# Altium integrated library Capacitors - Ceramic - 0201.IntLib: 1723 symbols (part 8 of 38)
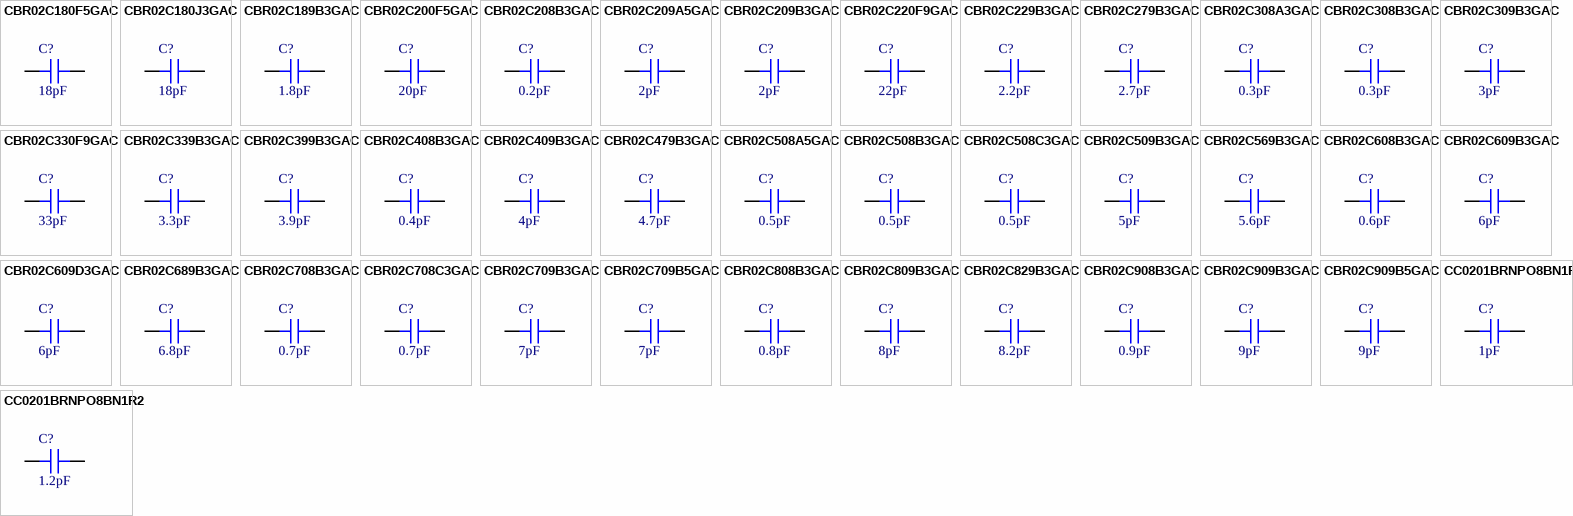
[diagram p50: symbols CBR02C180F5GAC to CC0201BRNPO8BN1R2]

## CBR02C208B3GAC
designator C?, comment 0.2pF
CAP CER 0.2PF 25V C0G/NP0 0201; Part Number: CBR02C208B3GAC; Manufacturer: KEMET; Temperature Coefficient: C0G, NP0; Tolerance: ±0.1pF; Value: 0.2pF; Applications: RF, Microwave, High Frequency; Capacitance: 0.2pF; ComponentLink1Description: Datasheet; ComponentLink1URL: https://api.kemet.com/component-edge/download/datasheet/CBR02C208B3GAC.pdf; ComponentLink2Description: DigiKey Link; ComponentLink2URL: http://digikey.com/product-detail/en/kemet/CBR02C208B3GAC/399-8620-1-ND/3479284; Device Package: 0201 (0603 Metric); Features: High Q, Low Loss, Ultra Low ESR; LastUpdated: 9/2/2020 12:59:07 AM; Lifecycle Status: Active; Minimum Order: 1; Mounting Type: Surface Mount, MLCC; Operating Temperature: -55°C ~ 125°C; Package / Case: 0201 (0603 Metric); Packaging: TapeAndReel; PartId: 841; Part Status: Active; Price: 0.03; Series: CBR-SMD RF C0G; Size / Dimension: 0.024" L x 0.012" W (0.60mm x 0.30mm); Supplier 1: DigiKey; Supplier Part Number 1: 399-8620-1-ND; Thickness (Max): 0.013" (0.33mm); Voltage - Rated: 25V
footprint CAP 0201_0603
pins: 1, 2

## CBR02C209A5GAC
designator C?, comment 2pF
CAP CER 2PF 50V C0G/NP0 0201; Part Number: CBR02C209A5GAC; Manufacturer: KEMET; Temperature Coefficient: C0G, NP0; Tolerance: ±0.05pF; Value: 2pF; Applications: RF, Microwave, High Frequency; Capacitance: 2pF; ComponentLink1Description: Datasheet; ComponentLink1URL: https://api.kemet.com/component-edge/download/datasheet/CBR02C209A5GAC.pdf; ComponentLink2Description: DigiKey Link; ComponentLink2URL: http://digikey.com/product-detail/en/kemet/CBR02C209A5GAC/399-17305-1-ND/8602587; Device Package: 0201 (0603 Metric); Features: High Q, Low Loss, Ultra Low ESR; LastUpdated: 9/2/2020 1:00:12 AM; Lifecycle Status: Active; Minimum Order: 1; Mounting Type: Surface Mount, MLCC; Operating Temperature: -55°C ~ 125°C; Package / Case: 0201 (0603 Metric); Packaging: TapeAndReel; PartId: 91; Part Status: Active; Price: 0.07; Series: CBR-SMD RF C0G; Size / Dimension: 0.024" L x 0.012" W (0.60mm x 0.30mm); Supplier 1: DigiKey; Supplier Part Number 1: 399-17305-1-ND; Thickness (Max): 0.013" (0.33mm); Voltage - Rated: 50V
footprint CAP 0201_0603
pins: 1, 2

## CBR02C209B3GAC
designator C?, comment 2pF
CAP CER 2PF 25V C0G/NP0 0201; Part Number: CBR02C209B3GAC; Manufacturer: KEMET; Temperature Coefficient: C0G, NP0; Tolerance: ±0.1pF; Value: 2pF; Applications: RF, Microwave, High Frequency; Capacitance: 2pF; ComponentLink1Description: Datasheet; ComponentLink1URL: https://api.kemet.com/component-edge/download/datasheet/CBR02C209B3GAC.pdf; ComponentLink2Description: DigiKey Link; ComponentLink2URL: http://digikey.com/product-detail/en/kemet/CBR02C209B3GAC/399-8567-1-ND/3479295; Device Package: 0201 (0603 Metric); Features: High Q, Low Loss, Ultra Low ESR; LastUpdated: 9/2/2020 12:59:16 AM; Lifecycle Status: Active; Minimum Order: 1; Mounting Type: Surface Mount, MLCC; Operating Temperature: -55°C ~ 125°C; Package / Case: 0201 (0603 Metric); Packaging: TapeAndReel; PartId: 734; Part Status: Active; Price: 0.03; Series: CBR-SMD RF C0G; Size / Dimension: 0.024" L x 0.012" W (0.60mm x 0.30mm); Supplier 1: DigiKey; Supplier Part Number 1: 399-8567-1-ND; Thickness (Max): 0.013" (0.33mm); Voltage - Rated: 25V
footprint CAP 0201_0603
pins: 1, 2

## CBR02C220F9GAC
designator C?, comment 22pF
CAP CER 22PF 6.3V NP0 0201; Part Number: CBR02C220F9GAC; Manufacturer: KEMET; Temperature Coefficient: C0G, NP0; Tolerance: ±1%; Value: 22pF; Applications: RF, Microwave, High Frequency; Capacitance: 22pF; ComponentLink1Description: Datasheet; ComponentLink1URL: https://api.kemet.com/component-edge/download/datasheet/CBR02C220F9GAC.pdf; ComponentLink2Description: DigiKey Link; ComponentLink2URL: http://digikey.com/product-detail/en/kemet/CBR02C220F9GAC/399-17306-1-ND/8602588; Device Package: 0201 (0603 Metric); Features: High Q, Low Loss, Ultra Low ESR; LastUpdated: 9/2/2020 12:58:39 AM; Lifecycle Status: Active; Minimum Order: 1; Mounting Type: Surface Mount, MLCC; Operating Temperature: -55°C ~ 125°C; Package / Case: 0201 (0603 Metric); Packaging: TapeAndReel; PartId: 1178; Part Status: Active; Price: 0.11; Series: CBR-SMD RF C0G; Size / Dimension: 0.024" L x 0.012" W (0.60mm x 0.30mm); Supplier 1: DigiKey; Supplier Part Number 1: 399-17306-1-ND; Thickness (Max): 0.013" (0.33mm); Voltage - Rated: 6.3V
footprint CAP 0201_0603
pins: 1, 2

## CBR02C229B3GAC
designator C?, comment 2.2pF
CAP CER 2.2PF 25V C0G/NP0 0201; Part Number: CBR02C229B3GAC; Manufacturer: KEMET; Temperature Coefficient: C0G, NP0; Tolerance: ±0.1pF; Value: 2.2pF; Applications: RF, Microwave, High Frequency; Capacitance: 2.2pF; ComponentLink1Description: Datasheet; ComponentLink1URL: https://api.kemet.com/component-edge/download/datasheet/CBR02C229B3GAC.pdf; ComponentLink2Description: DigiKey Link; ComponentLink2URL: http://digikey.com/product-detail/en/kemet/CBR02C229B3GAC/399-8607-1-ND/3479306; Device Package: 0201 (0603 Metric); Features: High Q, Low Loss, Ultra Low ESR; LastUpdated: 9/2/2020 12:59:08 AM; Lifecycle Status: Active; Minimum Order: 1; Mounting Type: Surface Mount, MLCC; Operating Temperature: -55°C ~ 125°C; Package / Case: 0201 (0603 Metric); Packaging: TapeAndReel; PartId: 825; Part Status: Active; Price: 0.03; Series: CBR-SMD RF C0G; Size / Dimension: 0.024" L x 0.012" W (0.60mm x 0.30mm); Supplier 1: DigiKey; Supplier Part Number 1: 399-8607-1-ND; Thickness (Max): 0.013" (0.33mm); Voltage - Rated: 25V
footprint CAP 0201_0603
pins: 1, 2

## CBR02C279B3GAC
designator C?, comment 2.7pF
CAP CER 2.7PF 25V C0G/NP0 0201; Part Number: CBR02C279B3GAC; Manufacturer: KEMET; Temperature Coefficient: C0G, NP0; Tolerance: ±0.1pF; Value: 2.7pF; Applications: RF, Microwave, High Frequency; Capacitance: 2.7pF; ComponentLink1Description: Datasheet; ComponentLink1URL: https://api.kemet.com/component-edge/download/datasheet/CBR02C279B3GAC.pdf; ComponentLink2Description: DigiKey Link; ComponentLink2URL: http://digikey.com/product-detail/en/kemet/CBR02C279B3GAC/399-8566-1-ND/3479315; Device Package: 0201 (0603 Metric); Features: High Q, Low Loss, Ultra Low ESR; LastUpdated: 9/2/2020 12:58:52 AM; Lifecycle Status: Active; Minimum Order: 1; Mounting Type: Surface Mount, MLCC; Operating Temperature: -55°C ~ 125°C; Package / Case: 0201 (0603 Metric); Packaging: TapeAndReel; PartId: 1015; Part Status: Active; Price: 0.03; Series: CBR-SMD RF C0G; Size / Dimension: 0.024" L x 0.012" W (0.60mm x 0.30mm); Supplier 1: DigiKey; Supplier Part Number 1: 399-8566-1-ND; Thickness (Max): 0.013" (0.33mm); Voltage - Rated: 25V
footprint CAP 0201_0603
pins: 1, 2

## CBR02C308A3GAC
designator C?, comment 0.3pF
CAP CER 0.3PF 25V C0G/NP0 0201; Part Number: CBR02C308A3GAC; Manufacturer: KEMET; Temperature Coefficient: C0G, NP0; Tolerance: ±0.05pF; Value: 0.3pF; Applications: RF, Microwave, High Frequency; Capacitance: 0.3pF; ComponentLink1Description: Datasheet; ComponentLink1URL: https://api.kemet.com/component-edge/download/datasheet/CBR02C308A3GAC.pdf; ComponentLink2Description: DigiKey Link; ComponentLink2URL: http://digikey.com/product-detail/en/kemet/CBR02C308A3GAC/399-8569-1-ND/3479326; Device Package: 0201 (0603 Metric); Features: High Q, Low Loss, Ultra Low ESR; LastUpdated: 9/2/2020 12:58:50 AM; Lifecycle Status: Active; Minimum Order: 1; Mounting Type: Surface Mount, MLCC; Operating Temperature: -55°C ~ 125°C; Package / Case: 0201 (0603 Metric); Packaging: TapeAndReel; PartId: 1045; Part Status: Active; Price: 0.06; Series: CBR-SMD RF C0G; Size / Dimension: 0.024" L x 0.012" W (0.60mm x 0.30mm); Supplier 1: DigiKey; Supplier Part Number 1: 399-8569-1-ND; Thickness (Max): 0.013" (0.33mm); Voltage - Rated: 25V
footprint CAP 0201_0603
pins: 1, 2

## CBR02C308B3GAC
designator C?, comment 0.3pF
CAP CER 0.3PF 25V C0G/NP0 0201; Part Number: CBR02C308B3GAC; Manufacturer: KEMET; Temperature Coefficient: C0G, NP0; Tolerance: ±0.1pF; Value: 0.3pF; Applications: RF, Microwave, High Frequency; Capacitance: 0.3pF; ComponentLink1Description: Datasheet; ComponentLink1URL: https://api.kemet.com/component-edge/download/datasheet/CBR02C308B3GAC.pdf; ComponentLink2Description: DigiKey Link; ComponentLink2URL: http://digikey.com/product-detail/en/kemet/CBR02C308B3GAC/399-6136-1-ND/2732128; Device Package: 0201 (0603 Metric); Features: High Q, Low Loss, Ultra Low ESR; LastUpdated: 9/2/2020 12:59:07 AM; Lifecycle Status: Active; Minimum Order: 1; Mounting Type: Surface Mount, MLCC; Operating Temperature: -55°C ~ 125°C; Package / Case: 0201 (0603 Metric); Packaging: TapeAndReel; PartId: 838; Part Status: Active; Price: 0.03; Series: CBR-SMD RF C0G; Size / Dimension: 0.024" L x 0.012" W (0.60mm x 0.30mm); Supplier 1: DigiKey; Supplier Part Number 1: 399-6136-1-ND; Thickness (Max): 0.013" (0.33mm); Voltage - Rated: 25V
footprint CAP 0201_0603
pins: 1, 2

## CBR02C309B3GAC
designator C?, comment 3pF
CAP CER 3PF 25V C0G/NP0 0201; Part Number: CBR02C309B3GAC; Manufacturer: KEMET; Temperature Coefficient: C0G, NP0; Tolerance: ±0.1pF; Value: 3pF; Applications: RF, Microwave, High Frequency; Capacitance: 3pF; ComponentLink1Description: Datasheet; ComponentLink1URL: https://api.kemet.com/component-edge/download/datasheet/CBR02C309B3GAC.pdf; ComponentLink2Description: DigiKey Link; ComponentLink2URL: http://digikey.com/product-detail/en/kemet/CBR02C309B3GAC/399-8579-1-ND/3479341; Device Package: 0201 (0603 Metric); Features: High Q, Low Loss, Ultra Low ESR; LastUpdated: 9/2/2020 12:58:12 AM; Lifecycle Status: Active; Minimum Order: 1; Mounting Type: Surface Mount, MLCC; Operating Temperature: -55°C ~ 125°C; Package / Case: 0201 (0603 Metric); Packaging: TapeAndReel; PartId: 1463; Part Status: Active; Price: 0.03; Series: CBR-SMD RF C0G; Size / Dimension: 0.024" L x 0.012" W (0.60mm x 0.30mm); Supplier 1: DigiKey; Supplier Part Number 1: 399-8579-1-ND; Thickness (Max): 0.013" (0.33mm); Voltage - Rated: 25V
footprint CAP 0201_0603
pins: 1, 2

## CBR02C330F9GAC
designator C?, comment 33pF
CAP CER 33PF 6.3V NP0 0201; Part Number: CBR02C330F9GAC; Manufacturer: KEMET; Temperature Coefficient: C0G, NP0; Tolerance: ±1%; Value: 33pF; Applications: RF, Microwave, High Frequency; Capacitance: 33pF; ComponentLink1Description: Datasheet; ComponentLink1URL: https://api.kemet.com/component-edge/download/datasheet/CBR02C330F9GAC.pdf; ComponentLink2Description: DigiKey Link; ComponentLink2URL: http://digikey.com/product-detail/en/kemet/CBR02C330F9GAC/399-17307-1-ND/8602589; Device Package: 0201 (0603 Metric); Features: High Q, Low Loss, Ultra Low ESR; LastUpdated: 9/2/2020 12:58:39 AM; Lifecycle Status: Active; Minimum Order: 1; Mounting Type: Surface Mount, MLCC; Operating Temperature: -55°C ~ 125°C; Package / Case: 0201 (0603 Metric); Packaging: TapeAndReel; PartId: 1177; Part Status: Active; Price: 0.11; Series: CBR-SMD RF C0G; Size / Dimension: 0.024" L x 0.012" W (0.60mm x 0.30mm); Supplier 1: DigiKey; Supplier Part Number 1: 399-17307-1-ND; Thickness (Max): 0.013" (0.33mm); Voltage - Rated: 6.3V
footprint CAP 0201_0603
pins: 1, 2

## CBR02C339B3GAC
designator C?, comment 3.3pF
CAP CER 3.3PF 25V C0G/NP0 0201; Part Number: CBR02C339B3GAC; Manufacturer: KEMET; Temperature Coefficient: C0G, NP0; Tolerance: ±0.1pF; Value: 3.3pF; Applications: RF, Microwave, High Frequency; Capacitance: 3.3pF; ComponentLink1Description: Datasheet; ComponentLink1URL: https://api.kemet.com/component-edge/download/datasheet/CBR02C339B3GAC.pdf; ComponentLink2Description: DigiKey Link; ComponentLink2URL: http://digikey.com/product-detail/en/kemet/CBR02C339B3GAC/399-8601-1-ND/3479347; Device Package: 0201 (0603 Metric); Features: High Q, Low Loss, Ultra Low ESR; LastUpdated: 9/2/2020 12:59:07 AM; Lifecycle Status: Active; Minimum Order: 1; Mounting Type: Surface Mount, MLCC; Operating Temperature: -55°C ~ 125°C; Package / Case: 0201 (0603 Metric); Packaging: TapeAndReel; PartId: 842; Part Status: Active; Price: 0.03; Series: CBR-SMD RF C0G; Size / Dimension: 0.024" L x 0.012" W (0.60mm x 0.30mm); Supplier 1: DigiKey; Supplier Part Number 1: 399-8601-1-ND; Thickness (Max): 0.013" (0.33mm); Voltage - Rated: 25V
footprint CAP 0201_0603
pins: 1, 2

## CBR02C399B3GAC
designator C?, comment 3.9pF
CAP CER 3.9PF 25V C0G/NP0 0201; Part Number: CBR02C399B3GAC; Manufacturer: KEMET; Temperature Coefficient: C0G, NP0; Tolerance: ±0.1pF; Value: 3.9pF; Applications: RF, Microwave, High Frequency; Capacitance: 3.9pF; ComponentLink1Description: Datasheet; ComponentLink1URL: https://api.kemet.com/component-edge/download/datasheet/CBR02C399B3GAC.pdf; ComponentLink2Description: DigiKey Link; ComponentLink2URL: http://digikey.com/product-detail/en/kemet/CBR02C399B3GAC/399-8615-1-ND/3479355; Device Package: 0201 (0603 Metric); Features: High Q, Low Loss, Ultra Low ESR; LastUpdated: 9/2/2020 12:59:08 AM; Lifecycle Status: Active; Minimum Order: 1; Mounting Type: Surface Mount, MLCC; Operating Temperature: -55°C ~ 125°C; Package / Case: 0201 (0603 Metric); Packaging: TapeAndReel; PartId: 831; Part Status: Active; Price: 0.03; Series: CBR-SMD RF C0G; Size / Dimension: 0.024" L x 0.012" W (0.60mm x 0.30mm); Supplier 1: DigiKey; Supplier Part Number 1: 399-8615-1-ND; Thickness (Max): 0.013" (0.33mm); Voltage - Rated: 25V
footprint CAP 0201_0603
pins: 1, 2

## CBR02C408B3GAC
designator C?, comment 0.4pF
CAP CER 0.4PF 25V C0G/NP0 0201; Part Number: CBR02C408B3GAC; Manufacturer: KEMET; Temperature Coefficient: C0G, NP0; Tolerance: ±0.1pF; Value: 0.4pF; Applications: RF, Microwave, High Frequency; Capacitance: 0.4pF; ComponentLink1Description: Datasheet; ComponentLink1URL: https://api.kemet.com/component-edge/download/datasheet/CBR02C408B3GAC.pdf; ComponentLink2Description: DigiKey Link; ComponentLink2URL: http://digikey.com/product-detail/en/kemet/CBR02C408B3GAC/399-8614-1-ND/3479269; Device Package: 0201 (0603 Metric); Features: High Q, Low Loss, Ultra Low ESR; LastUpdated: 9/2/2020 12:57:51 AM; Lifecycle Status: Active; Minimum Order: 1; Mounting Type: Surface Mount, MLCC; Operating Temperature: -55°C ~ 125°C; Package / Case: 0201 (0603 Metric); Packaging: TapeAndReel; PartId: 1708; Part Status: Active; Price: 0.03; Series: CBR-SMD RF C0G; Size / Dimension: 0.024" L x 0.012" W (0.60mm x 0.30mm); Supplier 1: DigiKey; Supplier Part Number 1: 399-8614-1-ND; Thickness (Max): 0.013" (0.33mm); Voltage - Rated: 25V
footprint CAP 0201_0603
pins: 1, 2

## CBR02C409B3GAC
designator C?, comment 4pF
CAP CER 4PF 25V C0G/NP0 0201; Part Number: CBR02C409B3GAC; Manufacturer: KEMET; Temperature Coefficient: C0G, NP0; Tolerance: ±0.1pF; Value: 4pF; Applications: RF, Microwave, High Frequency; Capacitance: 4pF; ComponentLink1Description: Datasheet; ComponentLink1URL: https://api.kemet.com/component-edge/download/datasheet/CBR02C409B3GAC.pdf; ComponentLink2Description: DigiKey Link; ComponentLink2URL: http://digikey.com/product-detail/en/kemet/CBR02C409B3GAC/399-8572-1-ND/3479275; Device Package: 0201 (0603 Metric); Features: High Q, Low Loss, Ultra Low ESR; LastUpdated: 9/2/2020 12:59:08 AM; Lifecycle Status: Active; Minimum Order: 1; Mounting Type: Surface Mount, MLCC; Operating Temperature: -55°C ~ 125°C; Package / Case: 0201 (0603 Metric); Packaging: TapeAndReel; PartId: 827; Part Status: Active; Price: 0.03; Series: CBR-SMD RF C0G; Size / Dimension: 0.024" L x 0.012" W (0.60mm x 0.30mm); Supplier 1: DigiKey; Supplier Part Number 1: 399-8572-1-ND; Thickness (Max): 0.013" (0.33mm); Voltage - Rated: 25V
footprint CAP 0201_0603
pins: 1, 2

## CBR02C479B3GAC
designator C?, comment 4.7pF
CAP CER 4.7PF 25V C0G/NP0 0201; Part Number: CBR02C479B3GAC; Manufacturer: KEMET; Temperature Coefficient: C0G, NP0; Tolerance: ±0.1pF; Value: 4.7pF; Applications: RF, Microwave, High Frequency; Capacitance: 4.7pF; ComponentLink1Description: Datasheet; ComponentLink1URL: https://api.kemet.com/component-edge/download/datasheet/CBR02C479B3GAC.pdf; ComponentLink2Description: DigiKey Link; ComponentLink2URL: http://digikey.com/product-detail/en/kemet/CBR02C479B3GAC/399-8602-1-ND/3479285; Device Package: 0201 (0603 Metric); Features: High Q, Low Loss, Ultra Low ESR; LastUpdated: 9/2/2020 12:57:51 AM; Lifecycle Status: Active; Minimum Order: 1; Mounting Type: Surface Mount, MLCC; Operating Temperature: -55°C ~ 125°C; Package / Case: 0201 (0603 Metric); Packaging: TapeAndReel; PartId: 1707; Part Status: Active; Price: 0.03; Series: CBR-SMD RF C0G; Size / Dimension: 0.024" L x 0.012" W (0.60mm x 0.30mm); Supplier 1: DigiKey; Supplier Part Number 1: 399-8602-1-ND; Thickness (Max): 0.013" (0.33mm); Voltage - Rated: 25V
footprint CAP 0201_0603
pins: 1, 2

## CBR02C508A5GAC
designator C?, comment 0.5pF
CAP CER 0.5PF 50V C0G/NP0 0201; Part Number: CBR02C508A5GAC; Manufacturer: KEMET; Temperature Coefficient: C0G, NP0; Tolerance: ±0.05pF; Value: 0.5pF; Applications: RF, Microwave, High Frequency; Capacitance: 0.5pF; ComponentLink1Description: Datasheet; ComponentLink1URL: https://api.kemet.com/component-edge/download/datasheet/CBR02C508A5GAC.pdf; ComponentLink2Description: DigiKey Link; ComponentLink2URL: http://digikey.com/product-detail/en/kemet/CBR02C508A5GAC/399-11243-1-ND/4376870; Device Package: 0201 (0603 Metric); Features: High Q, Low Loss, Ultra Low ESR; LastUpdated: 9/2/2020 12:57:51 AM; Lifecycle Status: Active; Minimum Order: 1; Mounting Type: Surface Mount, MLCC; Operating Temperature: -55°C ~ 125°C; Package / Case: 0201 (0603 Metric); Packaging: TapeAndReel; PartId: 1702; Part Status: Active; Price: 0.07; Series: CBR-SMD RF C0G; Size / Dimension: 0.024" L x 0.012" W (0.60mm x 0.30mm); Supplier 1: DigiKey; Supplier Part Number 1: 399-11243-1-ND; Thickness (Max): 0.013" (0.33mm); Voltage - Rated: 50V
footprint CAP 0201_0603
pins: 1, 2

## CBR02C508B3GAC
designator C?, comment 0.5pF
CAP CER 0.5PF 25V C0G/NP0 0201; Part Number: CBR02C508B3GAC; Manufacturer: KEMET; Temperature Coefficient: C0G, NP0; Tolerance: ±0.1pF; Value: 0.5pF; Applications: RF, Microwave, High Frequency; Capacitance: 0.5pF; ComponentLink1Description: Datasheet; ComponentLink1URL: https://api.kemet.com/component-edge/download/datasheet/CBR02C508B3GAC.pdf; ComponentLink2Description: DigiKey Link; ComponentLink2URL: http://digikey.com/product-detail/en/kemet/CBR02C508B3GAC/399-8568-1-ND/3479296; Device Package: 0201 (0603 Metric); Features: High Q, Low Loss, Ultra Low ESR; LastUpdated: 9/2/2020 12:59:07 AM; Lifecycle Status: Active; Minimum Order: 1; Mounting Type: Surface Mount, MLCC; Operating Temperature: -55°C ~ 125°C; Package / Case: 0201 (0603 Metric); Packaging: TapeAndReel; PartId: 840; Part Status: Active; Price: 0.03; Series: CBR-SMD RF C0G; Size / Dimension: 0.024" L x 0.012" W (0.60mm x 0.30mm); Supplier 1: DigiKey; Supplier Part Number 1: 399-8568-1-ND; Thickness (Max): 0.013" (0.33mm); Voltage - Rated: 25V
footprint CAP 0201_0603
pins: 1, 2

## CBR02C508C3GAC
designator C?, comment 0.5pF
CAP CER 0.5PF 25V C0G/NP0 0201; Part Number: CBR02C508C3GAC; Manufacturer: KEMET; Temperature Coefficient: C0G, NP0; Tolerance: ±0.25pF; Value: 0.5pF; Applications: RF, Microwave, High Frequency; Capacitance: 0.5pF; ComponentLink1Description: Datasheet; ComponentLink1URL: https://api.kemet.com/component-edge/download/datasheet/CBR02C508C3GAC.pdf; ComponentLink2Description: DigiKey Link; ComponentLink2URL: http://digikey.com/product-detail/en/kemet/CBR02C508C3GAC/399-6137-1-ND/2732130; Device Package: 0201 (0603 Metric); Features: High Q, Low Loss, Ultra Low ESR; LastUpdated: 9/2/2020 12:58:00 AM; Lifecycle Status: Active; Minimum Order: 1; Mounting Type: Surface Mount, MLCC; Operating Temperature: -55°C ~ 125°C; Package / Case: 0201 (0603 Metric); Packaging: TapeAndReel; PartId: 1604; Part Status: Active; Price: 0.03; Series: CBR-SMD RF C0G; Size / Dimension: 0.024" L x 0.012" W (0.60mm x 0.30mm); Supplier 1: DigiKey; Supplier Part Number 1: 399-6137-1-ND; Thickness (Max): 0.013" (0.33mm); Voltage - Rated: 25V
footprint CAP 0201_0603
pins: 1, 2

## CBR02C509B3GAC
designator C?, comment 5pF
CAP CER 5PF 25V C0G/NP0 0201; Part Number: CBR02C509B3GAC; Manufacturer: KEMET; Temperature Coefficient: C0G, NP0; Tolerance: ±0.1pF; Value: 5pF; Applications: RF, Microwave, High Frequency; Capacitance: 5pF; ComponentLink1Description: Datasheet; ComponentLink1URL: https://api.kemet.com/component-edge/download/datasheet/CBR02C509B3GAC.pdf; ComponentLink2Description: DigiKey Link; ComponentLink2URL: http://digikey.com/product-detail/en/kemet/CBR02C509B3GAC/399-8622-1-ND/3479307; Device Package: 0201 (0603 Metric); Features: High Q, Low Loss, Ultra Low ESR; LastUpdated: 9/2/2020 12:59:44 AM; Lifecycle Status: Active; Minimum Order: 1; Mounting Type: Surface Mount, MLCC; Operating Temperature: -55°C ~ 125°C; Package / Case: 0201 (0603 Metric); Packaging: TapeAndReel; PartId: 409; Part Status: Active; Price: 0.04; Series: CBR-SMD RF C0G; Size / Dimension: 0.024" L x 0.012" W (0.60mm x 0.30mm); Supplier 1: DigiKey; Supplier Part Number 1: 399-8622-1-ND; Thickness (Max): 0.013" (0.33mm); Voltage - Rated: 25V
footprint CAP 0201_0603
pins: 1, 2

## CBR02C569B3GAC
designator C?, comment 5.6pF
CAP CER 5.6PF 25V C0G/NP0 0201; Part Number: CBR02C569B3GAC; Manufacturer: KEMET; Temperature Coefficient: C0G, NP0; Tolerance: ±0.1pF; Value: 5.6pF; Applications: RF, Microwave, High Frequency; Capacitance: 5.6pF; ComponentLink1Description: Datasheet; ComponentLink1URL: https://api.kemet.com/component-edge/download/datasheet/CBR02C569B3GAC.pdf; ComponentLink2Description: DigiKey Link; ComponentLink2URL: http://digikey.com/product-detail/en/kemet/CBR02C569B3GAC/399-8577-1-ND/3479317; Device Package: 0201 (0603 Metric); Features: High Q, Low Loss, Ultra Low ESR; LastUpdated: 9/2/2020 12:58:16 AM; Lifecycle Status: Active; Minimum Order: 1; Mounting Type: Surface Mount, MLCC; Operating Temperature: -55°C ~ 125°C; Package / Case: 0201 (0603 Metric); Packaging: TapeAndReel; PartId: 1429; Part Status: Active; Price: 0.05; Series: CBR-SMD RF C0G; Size / Dimension: 0.024" L x 0.012" W (0.60mm x 0.30mm); Supplier 1: DigiKey; Supplier Part Number 1: 399-8577-1-ND; Thickness (Max): 0.013" (0.33mm); Voltage - Rated: 25V
footprint CAP 0201_0603
pins: 1, 2

## CBR02C608B3GAC
designator C?, comment 0.6pF
CAP CER 0.6PF 25V C0G/NP0 0201; Part Number: CBR02C608B3GAC; Manufacturer: KEMET; Temperature Coefficient: C0G, NP0; Tolerance: ±0.1pF; Value: 0.6pF; Applications: RF, Microwave, High Frequency; Capacitance: 0.6pF; ComponentLink1Description: Datasheet; ComponentLink1URL: https://api.kemet.com/component-edge/download/datasheet/CBR02C608B3GAC.pdf; ComponentLink2Description: DigiKey Link; ComponentLink2URL: http://digikey.com/product-detail/en/kemet/CBR02C608B3GAC/399-8621-1-ND/3479327; Device Package: 0201 (0603 Metric); Features: High Q, Low Loss, Ultra Low ESR; LastUpdated: 9/2/2020 12:59:07 AM; Lifecycle Status: Active; Minimum Order: 1; Mounting Type: Surface Mount, MLCC; Operating Temperature: -55°C ~ 125°C; Package / Case: 0201 (0603 Metric); Packaging: TapeAndReel; PartId: 837; Part Status: Active; Price: 0.03; Series: CBR-SMD RF C0G; Size / Dimension: 0.024" L x 0.012" W (0.60mm x 0.30mm); Supplier 1: DigiKey; Supplier Part Number 1: 399-8621-1-ND; Thickness (Max): 0.013" (0.33mm); Voltage - Rated: 25V
footprint CAP 0201_0603
pins: 1, 2

## CBR02C609B3GAC
designator C?, comment 6pF
CAP CER 6PF 25V C0G/NP0 0201; Part Number: CBR02C609B3GAC; Manufacturer: KEMET; Temperature Coefficient: C0G, NP0; Tolerance: ±0.1pF; Value: 6pF; Applications: RF, Microwave, High Frequency; Capacitance: 6pF; ComponentLink1Description: Datasheet; ComponentLink1URL: https://api.kemet.com/component-edge/download/datasheet/CBR02C609B3GAC.pdf; ComponentLink2Description: DigiKey Link; ComponentLink2URL: http://digikey.com/product-detail/en/kemet/CBR02C609B3GAC/399-8573-1-ND/3479339; Device Package: 0201 (0603 Metric); Features: High Q, Low Loss, Ultra Low ESR; LastUpdated: 9/2/2020 1:00:08 AM; Lifecycle Status: Active; Minimum Order: 1; Mounting Type: Surface Mount, MLCC; Operating Temperature: -55°C ~ 125°C; Package / Case: 0201 (0603 Metric); Packaging: TapeAndReel; PartId: 133; Part Status: Active; Price: 0.04; Series: CBR-SMD RF C0G; Size / Dimension: 0.024" L x 0.012" W (0.60mm x 0.30mm); Supplier 1: DigiKey; Supplier Part Number 1: 399-8573-1-ND; Thickness (Max): 0.013" (0.33mm); Voltage - Rated: 25V
footprint CAP 0201_0603
pins: 1, 2

## CBR02C609D3GAC
designator C?, comment 6pF
CAP CER 6PF 25V C0G/NP0 0201; Part Number: CBR02C609D3GAC; Manufacturer: KEMET; Temperature Coefficient: C0G, NP0; Tolerance: ±0.5pF; Value: 6pF; Applications: RF, Microwave, High Frequency; Capacitance: 6pF; ComponentLink1Description: Datasheet; ComponentLink1URL: https://api.kemet.com/component-edge/download/datasheet/CBR02C609D3GAC.pdf; ComponentLink2Description: DigiKey Link; ComponentLink2URL: http://digikey.com/product-detail/en/kemet/CBR02C609D3GAC/399-8613-1-ND/3479348; Device Package: 0201 (0603 Metric); Features: High Q, Low Loss, Ultra Low ESR; LastUpdated: 9/2/2020 12:58:39 AM; Lifecycle Status: Active; Minimum Order: 1; Mounting Type: Surface Mount, MLCC; Operating Temperature: -55°C ~ 125°C; Package / Case: 0201 (0603 Metric); Packaging: TapeAndReel; PartId: 1173; Part Status: Active; Price: 0.04; Series: CBR-SMD RF C0G; Size / Dimension: 0.024" L x 0.012" W (0.60mm x 0.30mm); Supplier 1: DigiKey; Supplier Part Number 1: 399-8613-1-ND; Thickness (Max): 0.013" (0.33mm); Voltage - Rated: 25V
footprint CAP 0201_0603
pins: 1, 2

## CBR02C689B3GAC
designator C?, comment 6.8pF
CAP CER 6.8PF 25V C0G/NP0 0201; Part Number: CBR02C689B3GAC; Manufacturer: KEMET; Temperature Coefficient: C0G, NP0; Tolerance: ±0.1pF; Value: 6.8pF; Applications: RF, Microwave, High Frequency; Capacitance: 6.8pF; ComponentLink1Description: Datasheet; ComponentLink1URL: https://api.kemet.com/component-edge/download/datasheet/CBR02C689B3GAC.pdf; ComponentLink2Description: DigiKey Link; ComponentLink2URL: http://digikey.com/product-detail/en/kemet/CBR02C689B3GAC/399-8558-1-ND/3479362; Device Package: 0201 (0603 Metric); Features: High Q, Low Loss, Ultra Low ESR; LastUpdated: 9/2/2020 12:59:44 AM; Lifecycle Status: Active; Minimum Order: 1; Mounting Type: Surface Mount, MLCC; Operating Temperature: -55°C ~ 125°C; Package / Case: 0201 (0603 Metric); Packaging: TapeAndReel; PartId: 410; Part Status: Active; Price: 0.04; Series: CBR-SMD RF C0G; Size / Dimension: 0.024" L x 0.012" W (0.60mm x 0.30mm); Supplier 1: DigiKey; Supplier Part Number 1: 399-8558-1-ND; Thickness (Max): 0.013" (0.33mm); Voltage - Rated: 25V
footprint CAP 0201_0603
pins: 1, 2

## CBR02C708B3GAC
designator C?, comment 0.7pF
CAP CER 0.7PF 25V C0G/NP0 0201; Part Number: CBR02C708B3GAC; Manufacturer: KEMET; Temperature Coefficient: C0G, NP0; Tolerance: ±0.1pF; Value: 0.7pF; Applications: RF, Microwave, High Frequency; Capacitance: 0.7pF; ComponentLink1Description: Datasheet; ComponentLink1URL: https://api.kemet.com/component-edge/download/datasheet/CBR02C708B3GAC.pdf; ComponentLink2Description: DigiKey Link; ComponentLink2URL: http://digikey.com/product-detail/en/kemet/CBR02C708B3GAC/399-8564-1-ND/3479278; Device Package: 0201 (0603 Metric); Features: High Q, Low Loss, Ultra Low ESR; LastUpdated: 9/2/2020 12:59:07 AM; Lifecycle Status: Active; Minimum Order: 1; Mounting Type: Surface Mount, MLCC; Operating Temperature: -55°C ~ 125°C; Package / Case: 0201 (0603 Metric); Packaging: TapeAndReel; PartId: 836; Part Status: Active; Price: 0.03; Series: CBR-SMD RF C0G; Size / Dimension: 0.024" L x 0.012" W (0.60mm x 0.30mm); Supplier 1: DigiKey; Supplier Part Number 1: 399-8564-1-ND; Thickness (Max): 0.013" (0.33mm); Voltage - Rated: 25V
footprint CAP 0201_0603
pins: 1, 2

## CBR02C708C3GAC
designator C?, comment 0.7pF
CAP CER 0.7PF 25V C0G/NP0 0201; Part Number: CBR02C708C3GAC; Manufacturer: KEMET; Temperature Coefficient: C0G, NP0; Tolerance: ±0.25pF; Value: 0.7pF; Applications: RF, Microwave, High Frequency; Capacitance: 0.7pF; ComponentLink1Description: Datasheet; ComponentLink1URL: https://api.kemet.com/component-edge/download/datasheet/CBR02C708C3GAC.pdf; ComponentLink2Description: DigiKey Link; ComponentLink2URL: http://digikey.com/product-detail/en/kemet/CBR02C708C3GAC/399-6138-1-ND/2732132; Device Package: 0201 (0603 Metric); Features: High Q, Low Loss, Ultra Low ESR; LastUpdated: 9/2/2020 12:59:16 AM; Lifecycle Status: Active; Minimum Order: 1; Mounting Type: Surface Mount, MLCC; Operating Temperature: -55°C ~ 125°C; Package / Case: 0201 (0603 Metric); Packaging: TapeAndReel; PartId: 735; Part Status: Active; Price: 0.03; Series: CBR-SMD RF C0G; Size / Dimension: 0.024" L x 0.012" W (0.60mm x 0.30mm); Supplier 1: DigiKey; Supplier Part Number 1: 399-6138-1-ND; Thickness (Max): 0.013" (0.33mm); Voltage - Rated: 25V
footprint CAP 0201_0603
pins: 1, 2

## CBR02C709B3GAC
designator C?, comment 7pF
CAP CER 7PF 25V C0G/NP0 0201; Part Number: CBR02C709B3GAC; Manufacturer: KEMET; Temperature Coefficient: C0G, NP0; Tolerance: ±0.1pF; Value: 7pF; Applications: RF, Microwave, High Frequency; Capacitance: 7pF; ComponentLink1Description: Datasheet; ComponentLink1URL: https://api.kemet.com/component-edge/download/datasheet/CBR02C709B3GAC.pdf; ComponentLink2Description: DigiKey Link; ComponentLink2URL: http://digikey.com/product-detail/en/kemet/CBR02C709B3GAC/399-8619-1-ND/3479288; Device Package: 0201 (0603 Metric); Features: High Q, Low Loss, Ultra Low ESR; LastUpdated: 9/2/2020 12:57:59 AM; Lifecycle Status: Active; Minimum Order: 1; Mounting Type: Surface Mount, MLCC; Operating Temperature: -55°C ~ 125°C; Package / Case: 0201 (0603 Metric); Packaging: TapeAndReel; PartId: 1619; Part Status: Active; Price: 0.04; Series: CBR-SMD RF C0G; Size / Dimension: 0.024" L x 0.012" W (0.60mm x 0.30mm); Supplier 1: DigiKey; Supplier Part Number 1: 399-8619-1-ND; Thickness (Max): 0.013" (0.33mm); Voltage - Rated: 25V
footprint CAP 0201_0603
pins: 1, 2

## CBR02C709B5GAC
designator C?, comment 7pF
CAP CER 7PF 50V C0G/NP0 0201; Part Number: CBR02C709B5GAC; Manufacturer: KEMET; Temperature Coefficient: C0G, NP0; Tolerance: ±0.1pF; Value: 7pF; Applications: RF, Microwave, High Frequency; Capacitance: 7pF; ComponentLink1Description: Datasheet; ComponentLink1URL: https://api.kemet.com/component-edge/download/datasheet/CBR02C709B5GAC.pdf; ComponentLink2Description: DigiKey Link; ComponentLink2URL: http://digikey.com/product-detail/en/kemet/CBR02C709B5GAC/399-11244-1-ND/4376871; Device Package: 0201 (0603 Metric); Features: High Q, Low Loss, Ultra Low ESR; LastUpdated: 9/2/2020 12:58:16 AM; Lifecycle Status: Active; Minimum Order: 1; Mounting Type: Surface Mount, MLCC; Operating Temperature: -55°C ~ 125°C; Package / Case: 0201 (0603 Metric); Packaging: TapeAndReel; PartId: 1430; Part Status: Active; Price: 0.05; Series: CBR-SMD RF C0G; Size / Dimension: 0.024" L x 0.012" W (0.60mm x 0.30mm); Supplier 1: DigiKey; Supplier Part Number 1: 399-11244-1-ND; Thickness (Max): 0.013" (0.33mm); Voltage - Rated: 50V
footprint CAP 0201_0603
pins: 1, 2

## CBR02C808B3GAC
designator C?, comment 0.8pF
CAP CER 0.8PF 25V C0G/NP0 0201; Part Number: CBR02C808B3GAC; Manufacturer: KEMET; Temperature Coefficient: C0G, NP0; Tolerance: ±0.1pF; Value: 0.8pF; Applications: RF, Microwave, High Frequency; Capacitance: 0.8pF; ComponentLink1Description: Datasheet; ComponentLink1URL: https://api.kemet.com/component-edge/download/datasheet/CBR02C808B3GAC.pdf; ComponentLink2Description: DigiKey Link; ComponentLink2URL: http://digikey.com/product-detail/en/kemet/CBR02C808B3GAC/399-8562-1-ND/3479308; Device Package: 0201 (0603 Metric); Features: High Q, Low Loss, Ultra Low ESR; LastUpdated: 9/2/2020 12:59:16 AM; Lifecycle Status: Active; Minimum Order: 1; Mounting Type: Surface Mount, MLCC; Operating Temperature: -55°C ~ 125°C; Package / Case: 0201 (0603 Metric); Packaging: TapeAndReel; PartId: 737; Part Status: Active; Price: 0.03; Series: CBR-SMD RF C0G; Size / Dimension: 0.024" L x 0.012" W (0.60mm x 0.30mm); Supplier 1: DigiKey; Supplier Part Number 1: 399-8562-1-ND; Thickness (Max): 0.013" (0.33mm); Voltage - Rated: 25V
footprint CAP 0201_0603
pins: 1, 2

## CBR02C809B3GAC
designator C?, comment 8pF
CAP CER 8PF 25V C0G/NP0 0201; Part Number: CBR02C809B3GAC; Manufacturer: KEMET; Temperature Coefficient: C0G, NP0; Tolerance: ±0.1pF; Value: 8pF; Applications: RF, Microwave, High Frequency; Capacitance: 8pF; ComponentLink1Description: Datasheet; ComponentLink1URL: https://api.kemet.com/component-edge/download/datasheet/CBR02C809B3GAC.pdf; ComponentLink2Description: DigiKey Link; ComponentLink2URL: http://digikey.com/product-detail/en/kemet/CBR02C809B3GAC/399-8618-1-ND/3479318; Device Package: 0201 (0603 Metric); Features: High Q, Low Loss, Ultra Low ESR; LastUpdated: 9/2/2020 12:58:16 AM; Lifecycle Status: Active; Minimum Order: 1; Mounting Type: Surface Mount, MLCC; Operating Temperature: -55°C ~ 125°C; Package / Case: 0201 (0603 Metric); Packaging: TapeAndReel; PartId: 1431; Part Status: Active; Price: 0.05; Series: CBR-SMD RF C0G; Size / Dimension: 0.024" L x 0.012" W (0.60mm x 0.30mm); Supplier 1: DigiKey; Supplier Part Number 1: 399-8618-1-ND; Thickness (Max): 0.013" (0.33mm); Voltage - Rated: 25V
footprint CAP 0201_0603
pins: 1, 2

## CBR02C829B3GAC
designator C?, comment 8.2pF
CAP CER 8.2PF 25V C0G/NP0 0201; Part Number: CBR02C829B3GAC; Manufacturer: KEMET; Temperature Coefficient: C0G, NP0; Tolerance: ±0.1pF; Value: 8.2pF; Applications: RF, Microwave, High Frequency; Capacitance: 8.2pF; ComponentLink1Description: Datasheet; ComponentLink1URL: https://api.kemet.com/component-edge/download/datasheet/CBR02C829B3GAC.pdf; ComponentLink2Description: DigiKey Link; ComponentLink2URL: http://digikey.com/product-detail/en/kemet/CBR02C829B3GAC/399-8565-1-ND/3479343; Device Package: 0201 (0603 Metric); Features: High Q, Low Loss, Ultra Low ESR; LastUpdated: 9/2/2020 1:00:08 AM; Lifecycle Status: Active; Minimum Order: 1; Mounting Type: Surface Mount, MLCC; Operating Temperature: -55°C ~ 125°C; Package / Case: 0201 (0603 Metric); Packaging: TapeAndReel; PartId: 135; Part Status: Active; Price: 0.04; Series: CBR-SMD RF C0G; Size / Dimension: 0.024" L x 0.012" W (0.60mm x 0.30mm); Supplier 1: DigiKey; Supplier Part Number 1: 399-8565-1-ND; Thickness (Max): 0.013" (0.33mm); Voltage - Rated: 25V
footprint CAP 0201_0603
pins: 1, 2

## CBR02C908B3GAC
designator C?, comment 0.9pF
CAP CER 0.9PF 25V C0G/NP0 0201; Part Number: CBR02C908B3GAC; Manufacturer: KEMET; Temperature Coefficient: C0G, NP0; Tolerance: ±0.1pF; Value: 0.9pF; Applications: RF, Microwave, High Frequency; Capacitance: 0.9pF; ComponentLink1Description: Datasheet; ComponentLink1URL: https://api.kemet.com/component-edge/download/datasheet/CBR02C908B3GAC.pdf; ComponentLink2Description: DigiKey Link; ComponentLink2URL: http://digikey.com/product-detail/en/kemet/CBR02C908B3GAC/399-8563-1-ND/3479359; Device Package: 0201 (0603 Metric); Features: High Q, Low Loss, Ultra Low ESR; LastUpdated: 9/2/2020 12:59:07 AM; Lifecycle Status: Active; Minimum Order: 1; Mounting Type: Surface Mount, MLCC; Operating Temperature: -55°C ~ 125°C; Package / Case: 0201 (0603 Metric); Packaging: TapeAndReel; PartId: 839; Part Status: Active; Price: 0.03; Series: CBR-SMD RF C0G; Size / Dimension: 0.024" L x 0.012" W (0.60mm x 0.30mm); Supplier 1: DigiKey; Supplier Part Number 1: 399-8563-1-ND; Thickness (Max): 0.013" (0.33mm); Voltage - Rated: 25V
footprint CAP 0201_0603
pins: 1, 2

## CBR02C909B3GAC
designator C?, comment 9pF
CAP CER 9PF 25V C0G/NP0 0201; Part Number: CBR02C909B3GAC; Manufacturer: KEMET; Temperature Coefficient: C0G, NP0; Tolerance: ±0.1pF; Value: 9pF; Applications: RF, Microwave, High Frequency; Capacitance: 9pF; ComponentLink1Description: Datasheet; ComponentLink1URL: https://api.kemet.com/component-edge/download/datasheet/CBR02C909B3GAC.pdf; ComponentLink2Description: DigiKey Link; ComponentLink2URL: http://digikey.com/product-detail/en/kemet/CBR02C909B3GAC/399-8575-1-ND/3479367; Device Package: 0201 (0603 Metric); Features: High Q, Low Loss, Ultra Low ESR; LastUpdated: 9/2/2020 1:00:08 AM; Lifecycle Status: Active; Minimum Order: 1; Mounting Type: Surface Mount, MLCC; Operating Temperature: -55°C ~ 125°C; Package / Case: 0201 (0603 Metric); Packaging: TapeAndReel; PartId: 134; Part Status: Active; Price: 0.04; Series: CBR-SMD RF C0G; Size / Dimension: 0.024" L x 0.012" W (0.60mm x 0.30mm); Supplier 1: DigiKey; Supplier Part Number 1: 399-8575-1-ND; Thickness (Max): 0.013" (0.33mm); Voltage - Rated: 25V
footprint CAP 0201_0603
pins: 1, 2

## CBR02C909B5GAC
designator C?, comment 9pF
CAP CER 9PF 50V C0G/NP0 0201; Part Number: CBR02C909B5GAC; Manufacturer: KEMET; Temperature Coefficient: C0G, NP0; Tolerance: ±0.1pF; Value: 9pF; Applications: RF, Microwave, High Frequency; Capacitance: 9pF; ComponentLink1Description: Datasheet; ComponentLink1URL: https://api.kemet.com/component-edge/download/datasheet/CBR02C909B5GAC.pdf; ComponentLink2Description: DigiKey Link; ComponentLink2URL: http://digikey.com/product-detail/en/kemet/CBR02C909B5GAC/399-11245-1-ND/4376872; Device Package: 0201 (0603 Metric); Features: High Q, Low Loss, Ultra Low ESR; LastUpdated: 9/2/2020 12:59:23 AM; Lifecycle Status: Active; Minimum Order: 1; Mounting Type: Surface Mount, MLCC; Operating Temperature: -55°C ~ 125°C; Package / Case: 0201 (0603 Metric); Packaging: TapeAndReel; PartId: 655; Part Status: Active; Price: 0.05; Series: CBR-SMD RF C0G; Size / Dimension: 0.024" L x 0.012" W (0.60mm x 0.30mm); Supplier 1: DigiKey; Supplier Part Number 1: 399-11245-1-ND; Thickness (Max): 0.013" (0.33mm); Voltage - Rated: 50V
footprint CAP 0201_0603
pins: 1, 2

## CC0201BRNPO8BN1R0
designator C?, comment 1pF
CAP CER 1PF 25V NPO 0201; Part Number: CC0201BRNPO8BN1R0; Manufacturer: Yageo; Temperature Coefficient: C0G, NP0; Tolerance: ±0.1pF; Value: 1pF; Applications: General Purpose; Capacitance: 1pF; ComponentLink1Description: Datasheet; ComponentLink1URL: https://www.yageo.com/upload/media/product/productsearch/datasheet/mlcc/UPY-GP_NP0_16V-to-50V_17.pdf; ComponentLink2Description: DigiKey Link; ComponentLink2URL: http://digikey.com/product-detail/en/yageo/CC0201BRNPO8BN1R0/311-3288-1-ND/6818258; Device Package: 0201 (0603 Metric); LastUpdated: 9/2/2020 12:57:56 AM; Lifecycle Status: Active; Minimum Order: 1; Mounting Type: Surface Mount, MLCC; Operating Temperature: -55°C ~ 125°C; Package / Case: 0201 (0603 Metric); Packaging: TapeAndReel; PartId: 1654; Part Status: Active; Price: 0.01; Series: CC; Size / Dimension: 0.024" L x 0.012" W (0.60mm x 0.30mm); Supplier 1: DigiKey; Supplier Part Number 1: 311-3288-1-ND; Thickness (Max): 0.013" (0.33mm); Voltage - Rated: 25V
footprint CAP 0201_0603
pins: 1, 2

## CC0201BRNPO8BN1R2
designator C?, comment 1.2pF
CAP CER 1.2PF 25V NPO 0201; Part Number: CC0201BRNPO8BN1R2; Manufacturer: Yageo; Temperature Coefficient: C0G, NP0; Tolerance: ±0.1pF; Value: 1.2pF; Applications: General Purpose; Capacitance: 1.2pF; ComponentLink1Description: Datasheet; ComponentLink1URL: https://www.yageo.com/upload/media/product/productsearch/datasheet/mlcc/UPY-GP_NP0_16V-to-50V_17.pdf; ComponentLink2Description: DigiKey Link; ComponentLink2URL: http://digikey.com/product-detail/en/yageo/CC0201BRNPO8BN1R2/311-3658-1-ND/8024747; Device Package: 0201 (0603 Metric); LastUpdated: 9/2/2020 12:58:19 AM; Lifecycle Status: Active; Minimum Order: 1; Mounting Type: Surface Mount, MLCC; Operating Temperature: -55°C ~ 125°C; Package / Case: 0201 (0603 Metric); Packaging: TapeAndReel; PartId: 1399; Part Status: Active; Price: 0.01; Series: CC; Size / Dimension: 0.024" L x 0.012" W (0.60mm x 0.30mm); Supplier 1: DigiKey; Supplier Part Number 1: 311-3658-1-ND; Thickness (Max): 0.013" (0.33mm); Voltage - Rated: 25V
footprint CAP 0201_0603
pins: 1, 2

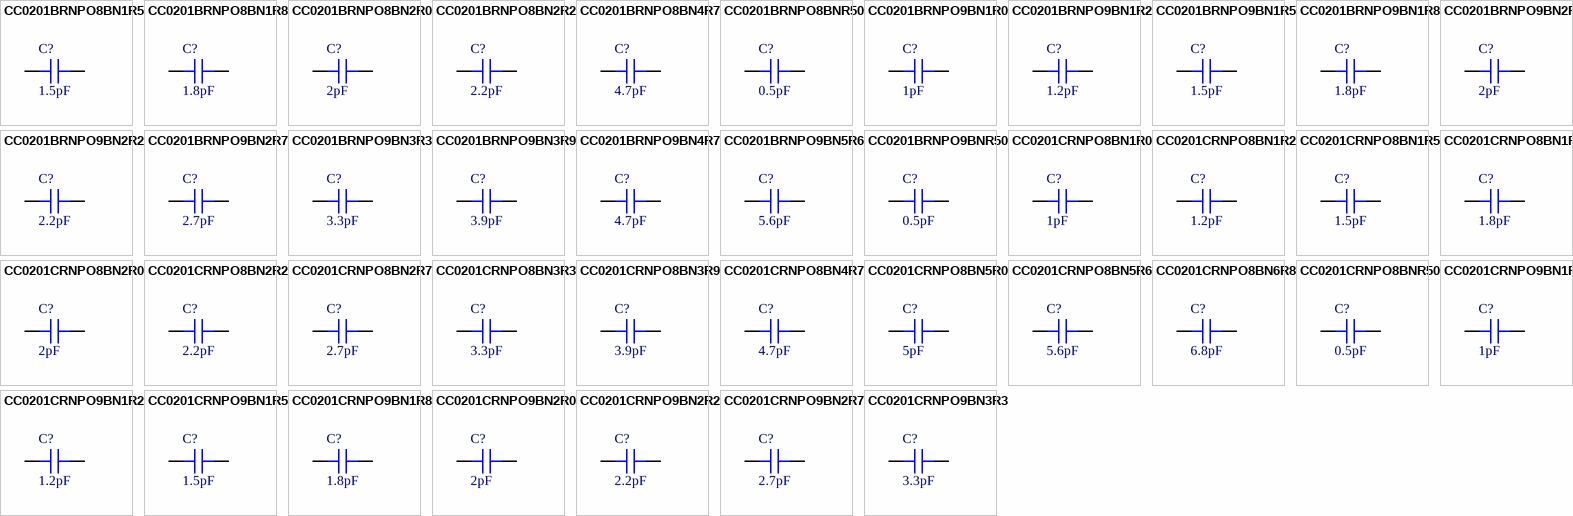
[diagram p9: symbols CC0201BRNPO8BN1R5 to CC0201CRNPO9BN3R3]

## CC0201BRNPO8BN1R5
designator C?, comment 1.5pF
CAP CER 1.5PF 25V NPO 0201; Part Number: CC0201BRNPO8BN1R5; Manufacturer: Yageo; Temperature Coefficient: C0G, NP0; Tolerance: ±0.1pF; Value: 1.5pF; Applications: General Purpose; Capacitance: 1.5pF; ComponentLink1Description: Datasheet; ComponentLink1URL: https://www.yageo.com/upload/media/product/productsearch/datasheet/mlcc/UPY-GP_NP0_16V-to-50V_17.pdf; ComponentLink2Description: DigiKey Link; ComponentLink2URL: http://digikey.com/product-detail/en/yageo/CC0201BRNPO8BN1R5/311-3659-1-ND/8024748; Device Package: 0201 (0603 Metric); LastUpdated: 9/2/2020 12:57:56 AM; Lifecycle Status: Active; Minimum Order: 1; Mounting Type: Surface Mount, MLCC; Operating Temperature: -55°C ~ 125°C; Package / Case: 0201 (0603 Metric); Packaging: TapeAndReel; PartId: 1652; Part Status: Active; Price: 0.01; Series: CC; Size / Dimension: 0.024" L x 0.012" W (0.60mm x 0.30mm); Supplier 1: DigiKey; Supplier Part Number 1: 311-3659-1-ND; Thickness (Max): 0.013" (0.33mm); Voltage - Rated: 25V
footprint CAP 0201_0603
pins: 1, 2

## CC0201BRNPO8BN1R8
designator C?, comment 1.8pF
CAP CER 1.8PF 25V NPO 0201; Part Number: CC0201BRNPO8BN1R8; Manufacturer: Yageo; Temperature Coefficient: C0G, NP0; Tolerance: ±0.1pF; Value: 1.8pF; Applications: General Purpose; Capacitance: 1.8pF; ComponentLink1Description: Datasheet; ComponentLink1URL: https://www.yageo.com/upload/media/product/productsearch/datasheet/mlcc/UPY-GP_NP0_16V-to-50V_17.pdf; ComponentLink2Description: DigiKey Link; ComponentLink2URL: http://digikey.com/product-detail/en/yageo/CC0201BRNPO8BN1R8/311-3660-1-ND/8024749; Device Package: 0201 (0603 Metric); LastUpdated: 9/2/2020 12:58:48 AM; Lifecycle Status: Active; Minimum Order: 1; Mounting Type: Surface Mount, MLCC; Operating Temperature: -55°C ~ 125°C; Package / Case: 0201 (0603 Metric); Packaging: TapeAndReel; PartId: 1069; Part Status: Active; Price: 0.01; Series: CC; Size / Dimension: 0.024" L x 0.012" W (0.60mm x 0.30mm); Supplier 1: DigiKey; Supplier Part Number 1: 311-3660-1-ND; Thickness (Max): 0.013" (0.33mm); Voltage - Rated: 25V
footprint CAP 0201_0603
pins: 1, 2

## CC0201BRNPO8BN2R0
designator C?, comment 2pF
CAP CER 2PF 25V NPO 0201; Part Number: CC0201BRNPO8BN2R0; Manufacturer: Yageo; Temperature Coefficient: C0G, NP0; Tolerance: ±0.1pF; Value: 2pF; Applications: General Purpose; Capacitance: 2pF; ComponentLink1Description: Datasheet; ComponentLink1URL: https://www.yageo.com/upload/media/product/productsearch/datasheet/mlcc/UPY-GP_NP0_16V-to-50V_17.pdf; ComponentLink2Description: DigiKey Link; ComponentLink2URL: http://digikey.com/product-detail/en/yageo/CC0201BRNPO8BN2R0/311-3661-1-ND/8024750; Device Package: 0201 (0603 Metric); LastUpdated: 9/2/2020 12:58:18 AM; Lifecycle Status: Active; Minimum Order: 1; Mounting Type: Surface Mount, MLCC; Operating Temperature: -55°C ~ 125°C; Package / Case: 0201 (0603 Metric); Packaging: TapeAndReel; PartId: 1408; Part Status: Active; Price: 0.01; Series: CC; Size / Dimension: 0.024" L x 0.012" W (0.60mm x 0.30mm); Supplier 1: DigiKey; Supplier Part Number 1: 311-3661-1-ND; Thickness (Max): 0.013" (0.33mm); Voltage - Rated: 25V
footprint CAP 0201_0603
pins: 1, 2

## CC0201BRNPO8BN2R2
designator C?, comment 2.2pF
CAP CER 2.2PF 25V NPO 0201; Part Number: CC0201BRNPO8BN2R2; Manufacturer: Yageo; Temperature Coefficient: C0G, NP0; Tolerance: ±0.1pF; Value: 2.2pF; Applications: General Purpose; Capacitance: 2.2pF; ComponentLink1Description: Datasheet; ComponentLink1URL: https://www.yageo.com/upload/media/product/productsearch/datasheet/mlcc/UPY-GP_NP0_16V-to-50V_17.pdf; ComponentLink2Description: DigiKey Link; ComponentLink2URL: http://digikey.com/product-detail/en/yageo/CC0201BRNPO8BN2R2/311-3289-1-ND/6818259; Device Package: 0201 (0603 Metric); LastUpdated: 9/2/2020 12:58:16 AM; Lifecycle Status: Active; Minimum Order: 1; Mounting Type: Surface Mount, MLCC; Operating Temperature: -55°C ~ 125°C; Package / Case: 0201 (0603 Metric); Packaging: TapeAndReel; PartId: 1423; Part Status: Active; Price: 0.01; Series: CC; Size / Dimension: 0.024" L x 0.012" W (0.60mm x 0.30mm); Supplier 1: DigiKey; Supplier Part Number 1: 311-3289-1-ND; Thickness (Max): 0.013" (0.33mm); Voltage - Rated: 25V
footprint CAP 0201_0603
pins: 1, 2

## CC0201BRNPO8BN4R7
designator C?, comment 4.7pF
CAP CER 4.7PF 25V NPO 0201; Part Number: CC0201BRNPO8BN4R7; Manufacturer: Yageo; Temperature Coefficient: C0G, NP0; Tolerance: ±0.1pF; Value: 4.7pF; Applications: General Purpose; Capacitance: 4.7pF; ComponentLink1Description: Datasheet; ComponentLink1URL: https://www.yageo.com/upload/media/product/productsearch/datasheet/mlcc/UPY-GP_NP0_16V-to-50V_17.pdf; ComponentLink2Description: DigiKey Link; ComponentLink2URL: http://digikey.com/product-detail/en/yageo/CC0201BRNPO8BN4R7/311-3662-1-ND/8024751; Device Package: 0201 (0603 Metric); LastUpdated: 9/2/2020 12:57:55 AM; Lifecycle Status: Active; Minimum Order: 1; Mounting Type: Surface Mount, MLCC; Operating Temperature: -55°C ~ 125°C; Package / Case: 0201 (0603 Metric); Packaging: TapeAndReel; PartId: 1656; Part Status: Active; Price: 0.01; Series: CC; Size / Dimension: 0.024" L x 0.012" W (0.60mm x 0.30mm); Supplier 1: DigiKey; Supplier Part Number 1: 311-3662-1-ND; Thickness (Max): 0.013" (0.33mm); Voltage - Rated: 25V
footprint CAP 0201_0603
pins: 1, 2

## CC0201BRNPO8BNR50
designator C?, comment 0.5pF
CAP CER 0.5PF 25V NPO 0201; Part Number: CC0201BRNPO8BNR50; Manufacturer: Yageo; Temperature Coefficient: C0G, NP0; Tolerance: ±0.1pF; Value: 0.5pF; Applications: General Purpose; Capacitance: 0.5pF; ComponentLink1Description: Datasheet; ComponentLink1URL: https://www.yageo.com/upload/media/product/productsearch/datasheet/mlcc/UPY-GP_NP0_16V-to-50V_17.pdf; ComponentLink2Description: DigiKey Link; ComponentLink2URL: http://digikey.com/product-detail/en/yageo/CC0201BRNPO8BNR50/311-3290-1-ND/6818260; Device Package: 0201 (0603 Metric); LastUpdated: 9/2/2020 12:58:33 AM; Lifecycle Status: Active; Minimum Order: 1; Mounting Type: Surface Mount, MLCC; Operating Temperature: -55°C ~ 125°C; Package / Case: 0201 (0603 Metric); Packaging: TapeAndReel; PartId: 1243; Part Status: Active; Price: 0.01; Series: CC; Size / Dimension: 0.024" L x 0.012" W (0.60mm x 0.30mm); Supplier 1: DigiKey; Supplier Part Number 1: 311-3290-1-ND; Thickness (Max): 0.013" (0.33mm); Voltage - Rated: 25V
footprint CAP 0201_0603
pins: 1, 2

## CC0201BRNPO9BN1R0
designator C?, comment 1pF
CAP CER 1PF 50V NPO 0201; Part Number: CC0201BRNPO9BN1R0; Manufacturer: Yageo; Temperature Coefficient: C0G, NP0; Tolerance: ±0.1pF; Value: 1pF; Applications: General Purpose; Capacitance: 1pF; ComponentLink1Description: Datasheet; ComponentLink1URL: https://www.yageo.com/upload/media/product/productsearch/datasheet/mlcc/UPY-GP_NP0_16V-to-50V_17.pdf; ComponentLink2Description: DigiKey Link; ComponentLink2URL: http://digikey.com/product-detail/en/yageo/CC0201BRNPO9BN1R0/311-3291-1-ND/6818261; Device Package: 0201 (0603 Metric); LastUpdated: 9/2/2020 12:57:56 AM; Lifecycle Status: Active; Minimum Order: 1; Mounting Type: Surface Mount, MLCC; Operating Temperature: -55°C ~ 125°C; Package / Case: 0201 (0603 Metric); Packaging: TapeAndReel; PartId: 1651; Part Status: Active; Price: 0.01; Series: CC; Size / Dimension: 0.024" L x 0.012" W (0.60mm x 0.30mm); Supplier 1: DigiKey; Supplier Part Number 1: 311-3291-1-ND; Thickness (Max): 0.013" (0.33mm); Voltage - Rated: 50V
footprint CAP 0201_0603
pins: 1, 2

## CC0201BRNPO9BN1R2
designator C?, comment 1.2pF
CAP CER 1.2PF 50V NPO 0201; Part Number: CC0201BRNPO9BN1R2; Manufacturer: Yageo; Temperature Coefficient: C0G, NP0; Tolerance: ±0.1pF; Value: 1.2pF; Applications: General Purpose; Capacitance: 1.2pF; ComponentLink1Description: Datasheet; ComponentLink1URL: https://www.yageo.com/upload/media/product/productsearch/datasheet/mlcc/UPY-GP_NP0_16V-to-50V_17.pdf; ComponentLink2Description: DigiKey Link; ComponentLink2URL: http://digikey.com/product-detail/en/yageo/CC0201BRNPO9BN1R2/311-3292-1-ND/6818262; Device Package: 0201 (0603 Metric); LastUpdated: 9/2/2020 12:57:56 AM; Lifecycle Status: Active; Minimum Order: 1; Mounting Type: Surface Mount, MLCC; Operating Temperature: -55°C ~ 125°C; Package / Case: 0201 (0603 Metric); Packaging: TapeAndReel; PartId: 1650; Part Status: Active; Price: 0.01; Series: CC; Size / Dimension: 0.024" L x 0.012" W (0.60mm x 0.30mm); Supplier 1: DigiKey; Supplier Part Number 1: 311-3292-1-ND; Thickness (Max): 0.013" (0.33mm); Voltage - Rated: 50V
footprint CAP 0201_0603
pins: 1, 2

## CC0201BRNPO9BN1R5
designator C?, comment 1.5pF
CAP CER 1.5PF 50V NPO 0201; Part Number: CC0201BRNPO9BN1R5; Manufacturer: Yageo; Temperature Coefficient: C0G, NP0; Tolerance: ±0.1pF; Value: 1.5pF; Applications: General Purpose; Capacitance: 1.5pF; ComponentLink1Description: Datasheet; ComponentLink1URL: https://www.yageo.com/upload/media/product/productsearch/datasheet/mlcc/UPY-GP_NP0_16V-to-50V_17.pdf; ComponentLink2Description: DigiKey Link; ComponentLink2URL: http://digikey.com/product-detail/en/yageo/CC0201BRNPO9BN1R5/311-3663-1-ND/8024752; Device Package: 0201 (0603 Metric); LastUpdated: 9/2/2020 12:59:28 AM; Lifecycle Status: Active; Minimum Order: 1; Mounting Type: Surface Mount, MLCC; Operating Temperature: -55°C ~ 125°C; Package / Case: 0201 (0603 Metric); Packaging: CutTape; PartId: 598; Part Status: Active; Price: 0.10; Series: CC; Size / Dimension: 0.024" L x 0.012" W (0.60mm x 0.30mm); Supplier 1: DigiKey; Supplier Part Number 1: 311-3663-1-ND; Thickness (Max): 0.013" (0.33mm); Voltage - Rated: 50V
footprint CAP 0201_0603
pins: 1, 2